# EAGLE library part 83652 (library micro-intel)
MICROCOMPUTER/PERIPHERAL DEVICE
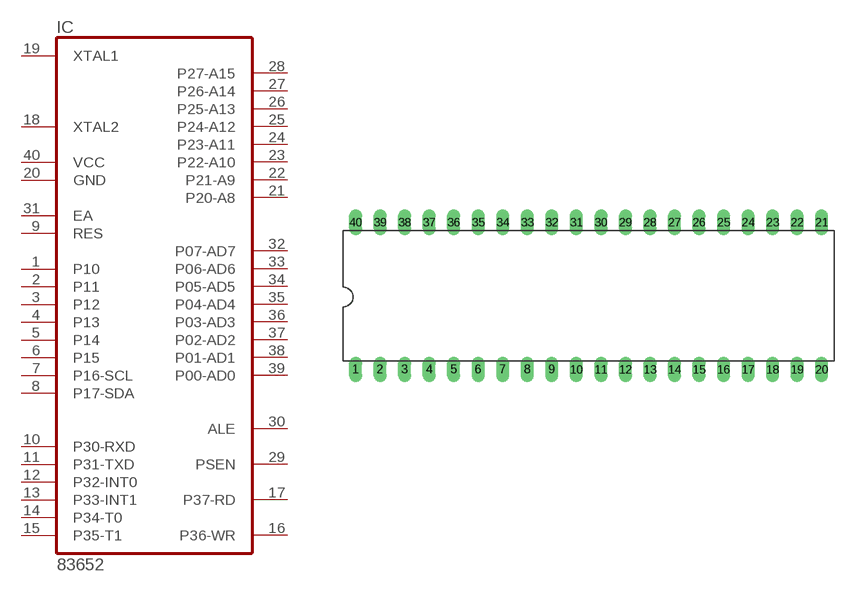
[diagram p26: symbol with the pads of DIL40; footprint DIL40]

Designator prefix IC

## 83652  [DIL40]
1  P10
2  P11
3  P12
4  P13
5  P14
6  P15
7  P16-SCL
8  P17-SDA
9  RES  in
10  P30-RXD
11  P31-TXD
12  P32-INT0
13  P33-INT1
14  P34-T0
15  P35-T1
16  P36-WR
17  P37-RD
18  XTAL2  in
19  XTAL1  in
20  GND  pwr
21  P20-A8
22  P21-A9
23  P22-A10
24  P23-A11
25  P24-A12
26  P25-A13
27  P26-A14
28  P27-A15
29  PSEN  out
30  ALE  out
31  EA  in
32  P07-AD7
33  P06-AD6
34  P05-AD5
35  P04-AD4
36  P03-AD3
37  P02-AD2
38  P01-AD1
39  P00-AD0
40  VCC  pwr

## Footprint DIL40 (pad centres in mm)
Dual In Line Package
drill 0.813 long: 1 -24.13,-7.62; 2 -21.59,-7.62; 3 -19.05,-7.62; 4 -16.51,-7.62; 5 -13.97,-7.62; 6 -11.43,-7.62; 7 -8.89,-7.62; 8 -6.35,-7.62; 9 -3.81,-7.62; 10 -1.27,-7.62; 11 1.27,-7.62; 12 3.81,-7.62; 13 6.35,-7.62; 14 8.89,-7.62; 15 11.43,-7.62; 16 13.97,-7.62; 17 16.51,-7.62; 18 19.05,-7.62; 19 21.59,-7.62; 20 24.13,-7.62; 21 24.13,7.62; 22 21.59,7.62; 23 19.05,7.62; 24 16.51,7.62; 25 13.97,7.62; 26 11.43,7.62; 27 8.89,7.62; 28 6.35,7.62; 29 3.81,7.62; 30 1.27,7.62; 31 -1.27,7.62; 32 -3.81,7.62; 33 -6.35,7.62; 34 -8.89,7.62; 35 -11.43,7.62; 36 -13.97,7.62; 37 -16.51,7.62; 38 -19.05,7.62; 39 -21.59,7.62; 40 -24.13,7.62